# Altium integrated library Linear Technology Power Management PMIC Multifunction.IntLib: 360 symbols (part 36 of 42)
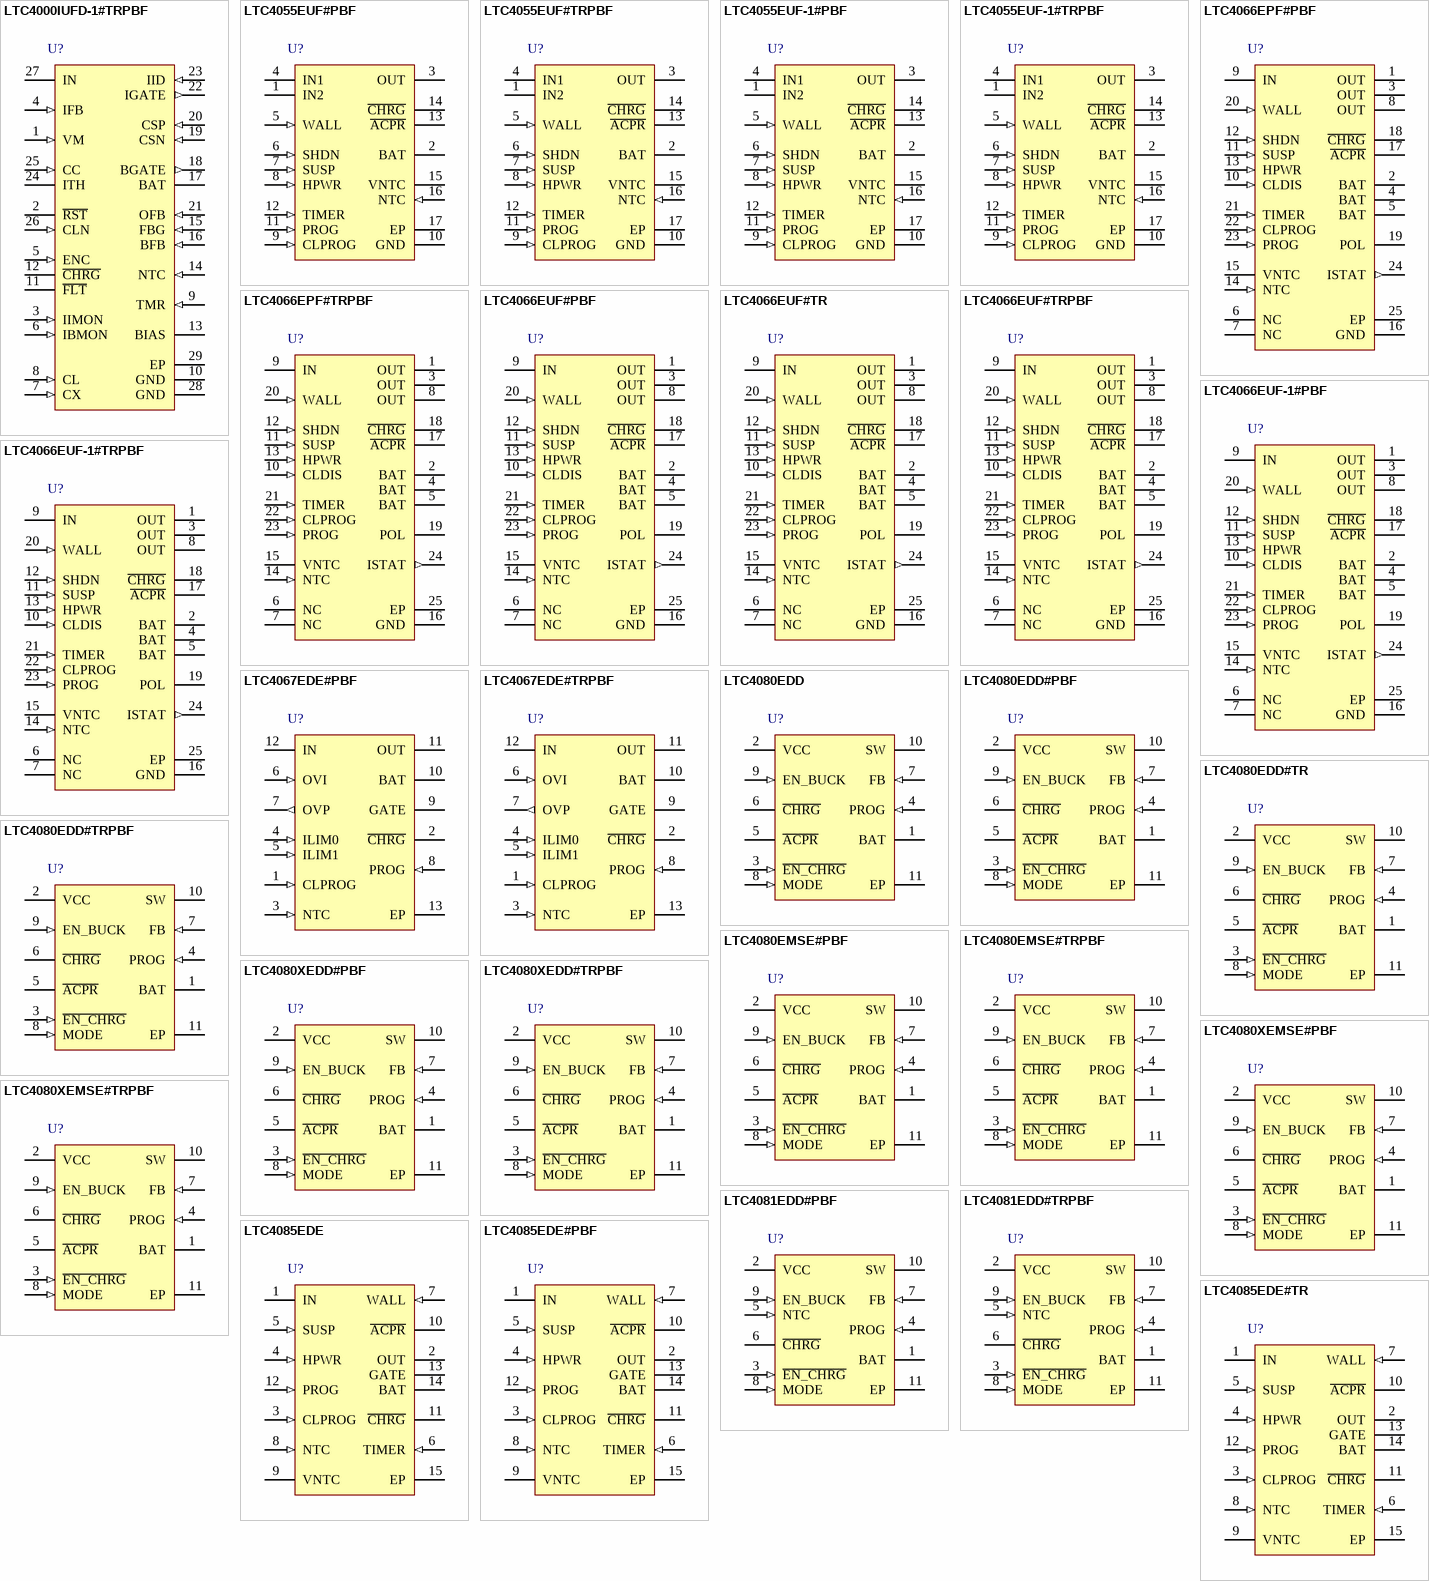
[diagram p53: symbols LTC4000IUFD-1#TRPBF to LTC4085EDE#TR]

## LTC4066EUF#TRPBF
designator U?
USB Power Manager with Low-Loss 50 mOhm Ideal Diode and Li-Ion Battery Charger, 4.35 to 5.5 V Vin, 24-pin QFN (UF-24) -40 to 85 degC, Pb-Free, Tape and Reel; Manufacturer: Linear Technology; PartNumber: LTC4066EUF#TRPBF; Number of Cells: 1; Vin Max(V): 5.5; Vin Min(V): 4.35; DatasheetVersion: Rev. C; PackageVersion: Rev. B, 02/2012; PackageReference: UF24; PackageDescription: 24-Pin Plastic QFN, Body 4 x 4 mm, Pitch 0.5 mm; Supplier 1: Digi-Key; Supplier Part Number 1: LTC4066EUF#TRPBF-ND; Supplier 2: Newark; Supplier Part Number 2: 56M8690; Number of Outputs: 1; Packing: Tape and Reel; RoHS: TRUE; Mounting Technology: Surface Mount; Code_JEDEC: MO-220; ComponentLink1Description: Manufacturer URL; ComponentLink1URL: http://www.linear.com/; ComponentLink2Description: Datasheet; ComponentLink2URL: http://cds.linear.com/docs/en/datasheet/4066fc.pdf; ComponentLink3Description: Package Specification; ComponentLink3URL: http://cds.linear.com/docs/en/packaging/%28UF24%29%20QFN%2005-08-1697%20Rev%20B.pdf
footprint LT-UF-24_N (QFN, 24-Leads, Body 4.1x4.1mm, Pitch 0.5mm, Thermal Pad 2.45x2.45mm, IPC Medium Density)
footprint LT-UF-24_L (QFN, 24-Leads, Body 4.1x4.1mm, Pitch 0.5mm, Thermal Pad 2.45x2.45mm, IPC High Density)
footprint LT-UF-24_M (QFN, 24-Leads, Body 4.1x4.1mm, Pitch 0.5mm, Thermal Pad 2.45x2.45mm, IPC Low Density)
pins: 1 OUT (power) "Voltage Output. This pin is used to provide controlled power to a USB device from either USB VBUS (IN) or the battery (BAT) when the USB is not present. This pin can also be used as an input for battery charging when the USB (See Datasheet)", 2 BAT (power) "Connect to a single cell Li-Ion battery. This pin is used as an output when charging the battery, and as an input when supplying power to OUT. When the OUT pin potential drops below the BAT pin potential, an ideal diode (See Datasheet)", 3 OUT (power) "Voltage Output. This pin is used to provide controlled power to a USB device from either USB VBUS (IN) or the battery (BAT) when the USB is not present. This pin can also be used as an input for battery charging when the USB (See Datasheet)", 4 BAT (power) "Connect to a single cell Li-Ion battery. This pin is used as an output when charging the battery, and as an input when supplying power to OUT. When the OUT pin potential drops below the BAT pin potential, an ideal diode (See Datasheet)", 5 BAT (power) "Connect to a single cell Li-Ion battery. This pin is used as an output when charging the battery, and as an input when supplying power to OUT. When the OUT pin potential drops below the BAT pin potential, an ideal diode (See Datasheet)", 6 NC, 7 NC, 8 OUT (power) "Voltage Output. This pin is used to provide controlled power to a USB device from either USB VBUS (IN) or the battery (BAT) when the USB is not present. This pin can also be used as an input for battery charging when the USB (See Datasheet)", 9 IN (power) "Input Supply. Connect to USB supply, VBUS. Input current to this pin is limited to either 20% or 100% of the current programmed by the CLPROG pin as determined by the state of the HPWR pin. The input current limit can also (See Datasheet)", 10 CLDIS (in) "Current Limit Disable. This logic input is used to disable the input current limit programmed by CLPROG. A voltage greater than 1.2V on the pin will set the current limit to IIN(MAX) (typically 2.6A). A weak pulldown current (See Datasheet)", 11 SUSP (in) "Suspend Mode Input. Pulling this pin above 1.2V will disable the power path from IN to OUT. The supply current from IN will be reduced to comply with the USB specifi cation for Suspend mode. Both the ability to charge the (See Datasheet)", 12 SHDN (in) "Shutdown Input. Pulling this pin greater than 1.2V will disable the entire part and place it in a low supply current mode of operation. All power paths will be disabled. A weak pull-down current is internally applied to this (See Datasheet)", 13 HPWR (in) "High Power Select. This logic input is used to control the input current limit. A voltage greater than 1.2V on the pin will set the input current limit to 100% of the current programmed by the CLPROG pin. A voltage less than (See Datasheet)", 14 NTC (in) "Input to the NTC Thermistor Monitoring Circuits. Under normal operation, tie a thermistor from the NTC pin to ground and a resistor of equal value from NTC to VNTC. When the voltage on this pin is above 0.74 • VVNTC (Cold(See Datasheet)", 15 VNTC "Output Bias Voltage for NTC. A resistor from this pin to the NTC pin will bias the NTC thermistor.", 16 GND (power) "Ground. The Exposed Pad is ground and must be soldered to the PC board for maximum heat transfer. The Exposed Pad must be electrically connected to the GND pin.", 17 ~{ACPR} (oc) "Wall Adapter Present Output. Active low open-drain output pin. A low on this pin indicates that the wall adapter input comparator has had its input pulled above the input threshold. This feature is disabled if the part is (See Datasheet)", 18 ~{CHRG} (hiz) "Open-Drain Charge Status Output. When the battery is being charged, the C\H\R\G\ pin is pulled low by an internal N-channel MOSFET. When the timer runs out or the charge current drops below a programmable current level or (See Datasheet)", 19 POL (hiz) "Battery Current Status Polarity Pin. This open-drain output pin indicates whether the current flowing out of the ISTAT pin represents one-thousandth of the current flowing into or out of the BAT pins. The POL pin will pull (See Datasheet)", 20 WALL (in) "Wall Adapter Present Input. Pulling this pin above 1.225V will disconnect the power path from IN to OUT. The A\C\P\R\ pin will also be pulled low to indicate that a wall adapter has been detected.", 21 TIMER (in) "Timer Capacitor. Placing a capacitor, CTIMER, to GND sets the timer period.", 22 CLPROG (in) "Current Limit Program and Input Current Monitor. Connecting a resistor, RCLPROG, to ground programs the input to output current limit.", 23 PROG (in) "Charge Current Program. Connecting a resistor, RPROG, to ground programs the battery charge current.", 24 ISTAT (out) "Battery Current Status Pin. One-thousandth of the current flowing into or out of the BAT pins flows out of this pin. The POL polarity pin indicates which direction current is flowing. If the current flowing into the BAT pins (See Datasheet)", 25 EP (power) "Ground. The Exposed Pad is ground and must be soldered to the PC board for maximum heat transfer. The Exposed Pad must be electrically connected to the GND pin."

## LTC4066EUF-1#PBF
designator U?
USB Power Manager with Low-Loss 50 mOhm Ideal Diode and Li-Ion Battery Charger, 4.35 to 5.5 V Vin, 24-pin QFN (UF-24) -40 to 85 degC, Pb-Free; Manufacturer: Linear Technology; PartNumber: LTC4066EUF-1#PBF; Number of Cells: 1; Vin Max(V): 5.5; Vin Min(V): 4.35; DatasheetVersion: Rev. C; PackageVersion: Rev. B, 02/2012; PackageReference: UF24; PackageDescription: 24-Pin Plastic QFN, Body 4 x 4 mm, Pitch 0.5 mm; Supplier 1: Digi-Key; Supplier Part Number 1: LTC4066EUF-1#PBF-ND; Number of Outputs: 1; RoHS: TRUE; Mounting Technology: Surface Mount; Code_JEDEC: MO-220; ComponentLink1Description: Manufacturer URL; ComponentLink1URL: http://www.linear.com/; ComponentLink2Description: Datasheet; ComponentLink2URL: http://cds.linear.com/docs/en/datasheet/4066fc.pdf; ComponentLink3Description: Package Specification; ComponentLink3URL: http://cds.linear.com/docs/en/packaging/%28UF24%29%20QFN%2005-08-1697%20Rev%20B.pdf
footprint LT-UF-24_N (QFN, 24-Leads, Body 4.1x4.1mm, Pitch 0.5mm, Thermal Pad 2.45x2.45mm, IPC Medium Density)
footprint LT-UF-24_L (QFN, 24-Leads, Body 4.1x4.1mm, Pitch 0.5mm, Thermal Pad 2.45x2.45mm, IPC High Density)
footprint LT-UF-24_M (QFN, 24-Leads, Body 4.1x4.1mm, Pitch 0.5mm, Thermal Pad 2.45x2.45mm, IPC Low Density)
pins: 1 OUT (power) "Voltage Output. This pin is used to provide controlled power to a USB device from either USB VBUS (IN) or the battery (BAT) when the USB is not present. This pin can also be used as an input for battery charging when the USB (See Datasheet)", 2 BAT (power) "Connect to a single cell Li-Ion battery. This pin is used as an output when charging the battery, and as an input when supplying power to OUT. When the OUT pin potential drops below the BAT pin potential, an ideal diode (See Datasheet)", 3 OUT (power) "Voltage Output. This pin is used to provide controlled power to a USB device from either USB VBUS (IN) or the battery (BAT) when the USB is not present. This pin can also be used as an input for battery charging when the USB (See Datasheet)", 4 BAT (power) "Connect to a single cell Li-Ion battery. This pin is used as an output when charging the battery, and as an input when supplying power to OUT. When the OUT pin potential drops below the BAT pin potential, an ideal diode (See Datasheet)", 5 BAT (power) "Connect to a single cell Li-Ion battery. This pin is used as an output when charging the battery, and as an input when supplying power to OUT. When the OUT pin potential drops below the BAT pin potential, an ideal diode (See Datasheet)", 6 NC, 7 NC, 8 OUT (power) "Voltage Output. This pin is used to provide controlled power to a USB device from either USB VBUS (IN) or the battery (BAT) when the USB is not present. This pin can also be used as an input for battery charging when the USB (See Datasheet)", 9 IN (power) "Input Supply. Connect to USB supply, VBUS. Input current to this pin is limited to either 20% or 100% of the current programmed by the CLPROG pin as determined by the state of the HPWR pin. The input current limit can also (See Datasheet)", 10 CLDIS (in) "Current Limit Disable. This logic input is used to disable the input current limit programmed by CLPROG. A voltage greater than 1.2V on the pin will set the current limit to IIN(MAX) (typically 2.6A). A weak pulldown current (See Datasheet)", 11 SUSP (in) "Suspend Mode Input. Pulling this pin above 1.2V will disable the power path from IN to OUT. The supply current from IN will be reduced to comply with the USB specifi cation for Suspend mode. Both the ability to charge the (See Datasheet)", 12 SHDN (in) "Shutdown Input. Pulling this pin greater than 1.2V will disable the entire part and place it in a low supply current mode of operation. All power paths will be disabled. A weak pull-down current is internally applied to this (See Datasheet)", 13 HPWR (in) "High Power Select. This logic input is used to control the input current limit. A voltage greater than 1.2V on the pin will set the input current limit to 100% of the current programmed by the CLPROG pin. A voltage less than (See Datasheet)", 14 NTC (in) "Input to the NTC Thermistor Monitoring Circuits. Under normal operation, tie a thermistor from the NTC pin to ground and a resistor of equal value from NTC to VNTC. When the voltage on this pin is above 0.74 • VVNTC (Cold(See Datasheet)", 15 VNTC "Output Bias Voltage for NTC. A resistor from this pin to the NTC pin will bias the NTC thermistor.", 16 GND (power) "Ground. The Exposed Pad is ground and must be soldered to the PC board for maximum heat transfer. The Exposed Pad must be electrically connected to the GND pin.", 17 ~{ACPR} (oc) "Wall Adapter Present Output. Active low open-drain output pin. A low on this pin indicates that the wall adapter input comparator has had its input pulled above the input threshold. This feature is disabled if the part is (See Datasheet)", 18 ~{CHRG} (hiz) "Open-Drain Charge Status Output. When the battery is being charged, the C\H\R\G\ pin is pulled low by an internal N-channel MOSFET. When the timer runs out or the charge current drops below a programmable current level or (See Datasheet)", 19 POL (hiz) "Battery Current Status Polarity Pin. This open-drain output pin indicates whether the current flowing out of the ISTAT pin represents one-thousandth of the current flowing into or out of the BAT pins. The POL pin will pull (See Datasheet)", 20 WALL (in) "Wall Adapter Present Input. Pulling this pin above 1.225V will disconnect the power path from IN to OUT. The A\C\P\R\ pin will also be pulled low to indicate that a wall adapter has been detected.", 21 TIMER (in) "Timer Capacitor. Placing a capacitor, CTIMER, to GND sets the timer period.", 22 CLPROG (in) "Current Limit Program and Input Current Monitor. Connecting a resistor, RCLPROG, to ground programs the input to output current limit.", 23 PROG (in) "Charge Current Program. Connecting a resistor, RPROG, to ground programs the battery charge current.", 24 ISTAT (out) "Battery Current Status Pin. One-thousandth of the current flowing into or out of the BAT pins flows out of this pin. The POL polarity pin indicates which direction current is flowing. If the current flowing into the BAT pins (See Datasheet)", 25 EP (power) "Ground. The Exposed Pad is ground and must be soldered to the PC board for maximum heat transfer. The Exposed Pad must be electrically connected to the GND pin."

## LTC4066EUF-1#TRPBF
designator U?
USB Power Manager with Low-Loss 50 mOhm Ideal Diode and Li-Ion Battery Charger, 4.35 to 5.5 V Vin, 24-pin QFN (UF-24) -40 to 85 degC, Pb-Free, Tape and Reel; Manufacturer: Linear Technology; PartNumber: LTC4066EUF-1#TRPBF; Number of Cells: 1; Vin Max(V): 5.5; Vin Min(V): 4.35; DatasheetVersion: Rev. C; PackageVersion: Rev. B, 02/2012; PackageReference: UF24; PackageDescription: 24-Pin Plastic QFN, Body 4 x 4 mm, Pitch 0.5 mm; Supplier 1: Digi-Key; Supplier Part Number 1: LTC4066EUF-1#TRPBF-ND; Number of Outputs: 1; Packing: Tape and Reel; RoHS: TRUE; Mounting Technology: Surface Mount; Code_JEDEC: MO-220; ComponentLink1Description: Manufacturer URL; ComponentLink1URL: http://www.linear.com/; ComponentLink2Description: Datasheet; ComponentLink2URL: http://cds.linear.com/docs/en/datasheet/4066fc.pdf; ComponentLink3Description: Package Specification; ComponentLink3URL: http://cds.linear.com/docs/en/packaging/%28UF24%29%20QFN%2005-08-1697%20Rev%20B.pdf
footprint LT-UF-24_N (QFN, 24-Leads, Body 4.1x4.1mm, Pitch 0.5mm, Thermal Pad 2.45x2.45mm, IPC Medium Density)
footprint LT-UF-24_L (QFN, 24-Leads, Body 4.1x4.1mm, Pitch 0.5mm, Thermal Pad 2.45x2.45mm, IPC High Density)
footprint LT-UF-24_M (QFN, 24-Leads, Body 4.1x4.1mm, Pitch 0.5mm, Thermal Pad 2.45x2.45mm, IPC Low Density)
pins: 1 OUT (power) "Voltage Output. This pin is used to provide controlled power to a USB device from either USB VBUS (IN) or the battery (BAT) when the USB is not present. This pin can also be used as an input for battery charging when the USB (See Datasheet)", 2 BAT (power) "Connect to a single cell Li-Ion battery. This pin is used as an output when charging the battery, and as an input when supplying power to OUT. When the OUT pin potential drops below the BAT pin potential, an ideal diode (See Datasheet)", 3 OUT (power) "Voltage Output. This pin is used to provide controlled power to a USB device from either USB VBUS (IN) or the battery (BAT) when the USB is not present. This pin can also be used as an input for battery charging when the USB (See Datasheet)", 4 BAT (power) "Connect to a single cell Li-Ion battery. This pin is used as an output when charging the battery, and as an input when supplying power to OUT. When the OUT pin potential drops below the BAT pin potential, an ideal diode (See Datasheet)", 5 BAT (power) "Connect to a single cell Li-Ion battery. This pin is used as an output when charging the battery, and as an input when supplying power to OUT. When the OUT pin potential drops below the BAT pin potential, an ideal diode (See Datasheet)", 6 NC, 7 NC, 8 OUT (power) "Voltage Output. This pin is used to provide controlled power to a USB device from either USB VBUS (IN) or the battery (BAT) when the USB is not present. This pin can also be used as an input for battery charging when the USB (See Datasheet)", 9 IN (power) "Input Supply. Connect to USB supply, VBUS. Input current to this pin is limited to either 20% or 100% of the current programmed by the CLPROG pin as determined by the state of the HPWR pin. The input current limit can also (See Datasheet)", 10 CLDIS (in) "Current Limit Disable. This logic input is used to disable the input current limit programmed by CLPROG. A voltage greater than 1.2V on the pin will set the current limit to IIN(MAX) (typically 2.6A). A weak pulldown current (See Datasheet)", 11 SUSP (in) "Suspend Mode Input. Pulling this pin above 1.2V will disable the power path from IN to OUT. The supply current from IN will be reduced to comply with the USB specifi cation for Suspend mode. Both the ability to charge the (See Datasheet)", 12 SHDN (in) "Shutdown Input. Pulling this pin greater than 1.2V will disable the entire part and place it in a low supply current mode of operation. All power paths will be disabled. A weak pull-down current is internally applied to this (See Datasheet)", 13 HPWR (in) "High Power Select. This logic input is used to control the input current limit. A voltage greater than 1.2V on the pin will set the input current limit to 100% of the current programmed by the CLPROG pin. A voltage less than (See Datasheet)", 14 NTC (in) "Input to the NTC Thermistor Monitoring Circuits. Under normal operation, tie a thermistor from the NTC pin to ground and a resistor of equal value from NTC to VNTC. When the voltage on this pin is above 0.74 • VVNTC (Cold(See Datasheet)", 15 VNTC "Output Bias Voltage for NTC. A resistor from this pin to the NTC pin will bias the NTC thermistor.", 16 GND (power) "Ground. The Exposed Pad is ground and must be soldered to the PC board for maximum heat transfer. The Exposed Pad must be electrically connected to the GND pin.", 17 ~{ACPR} (oc) "Wall Adapter Present Output. Active low open-drain output pin. A low on this pin indicates that the wall adapter input comparator has had its input pulled above the input threshold. This feature is disabled if the part is (See Datasheet)", 18 ~{CHRG} (hiz) "Open-Drain Charge Status Output. When the battery is being charged, the C\H\R\G\ pin is pulled low by an internal N-channel MOSFET. When the timer runs out or the charge current drops below a programmable current level or (See Datasheet)", 19 POL (hiz) "Battery Current Status Polarity Pin. This open-drain output pin indicates whether the current flowing out of the ISTAT pin represents one-thousandth of the current flowing into or out of the BAT pins. The POL pin will pull (See Datasheet)", 20 WALL (in) "Wall Adapter Present Input. Pulling this pin above 1.225V will disconnect the power path from IN to OUT. The A\C\P\R\ pin will also be pulled low to indicate that a wall adapter has been detected.", 21 TIMER (in) "Timer Capacitor. Placing a capacitor, CTIMER, to GND sets the timer period.", 22 CLPROG (in) "Current Limit Program and Input Current Monitor. Connecting a resistor, RCLPROG, to ground programs the input to output current limit.", 23 PROG (in) "Charge Current Program. Connecting a resistor, RPROG, to ground programs the battery charge current.", 24 ISTAT (out) "Battery Current Status Pin. One-thousandth of the current flowing into or out of the BAT pins flows out of this pin. The POL polarity pin indicates which direction current is flowing. If the current flowing into the BAT pins (See Datasheet)", 25 EP (power) "Ground. The Exposed Pad is ground and must be soldered to the PC board for maximum heat transfer. The Exposed Pad must be electrically connected to the GND pin."

## LTC4067EDE#PBF
designator U?
USB Power Manager with OVP and Li-Ion / Polymer Charger, 4.35 to 5.5 V Vin, 12-pin SON (DE-UE-12), -40 to 85 degC, Pb-Free; Manufacturer: Linear Technology; PartNumber: LTC4067EDE#PBF; Number of Cells: 1; PackageVersion: Rev. D, 06/2010; PackageReference: DE-UE-12; PackageDescription: 12-Pin Plastic DFN, Body 4 x 3 mm, Pitch 0.5 mm; Supplier 1: Digi-Key; Supplier Part Number 1: LTC4067EDE#PBF-ND; Supplier 2: Farnell; Supplier Part Number 2: 2295376; Supplier 3: Newark; Supplier Part Number 3: 56M8691; Number of Outputs: 1; RoHS: TRUE; Mounting Technology: Surface Mount; Code_JEDEC: MO-229; ComponentLink1Description: Manufacturer URL; ComponentLink1URL: http://www.linear.com/; ComponentLink2Description: Datasheet; ComponentLink2URL: http://cds.linear.com/docs/en/datasheet/4067f.pdf; ComponentLink3Description: Package Specification; ComponentLink3URL: http://cds.linear.com/docs/en/packaging/DFN_12_05-08-1695.pdf
footprint LT-DE-UE-12_V (SON, 12-Leads, Body 4x3mm, Pitch 0.5mm, Thermal Pad 3.3x1.7mm)
pins: 1 CLPROG (in) "Current Limit Program Pin. Connecting a 1% resistor, RCLPROG, to ground programs input current limit depending on the selected operating mode. Operating mode and input current limit are programmed depending on the ILIM0 and (See Datasheet)", 2 ~{CHRG} (hiz) "Open Drain Charge/Fault Status Output. When the battery is being charged, the C\H\R\G\ pin is pulled low by an internal N-channel MOSFET. When the timer runs out or the charge current drops below a programmable level or the (See Datasheet)", 3 NTC (in) "Thermistor sense input to the thermistor monitoring circuits. Under normal operation, tie a thermistor from the NTC pin to ground and a resistor of equal value from the NTC pin to IN. Connect the NTC pin to ground to disable (See Datasheet)", 4 ILIM0 (in) "Current Limit Control Input. Float or connect to ground when not in use (see Table 1).", 5 ILIM1 (in) "Current Limit Control Input. Float or connect to ground when not in use (see Table 1).", 6 OVI (in) "Overvoltage Protection Sense Input. Connect to ground when not in use. Bypass to OVP with a 10nF capacitor.", 7 OVP (out) "Overvoltage Protection Output. Drive output for an external high-voltage protection PFET. Float when not in use.", 8 PROG (in) "Charge Current Program Pin. Connecting a 1% resistor, RPROG, to ground programs the charge current during the constant-current portion of the charge cycle according to the following formula: ICC-CHG (A) = 1000V/RPROG. If the (See Datasheet)", 9 GATE (hiz) "External Ideal Diode Gate Connection. This pin controls the gate of an optional external P-channel MOSFET transistor used to supplement the internal ideal diode. The source of the P-channel MOSFET should be connected to OUT (See Datasheet)", 10 BAT (power) "Single-Cell Li-Ion Battery. Depending on available power and load, a Li-Ion battery on BAT will either deliver system power to OUT through the ideal diode or be charged from the battery charger.", 11 OUT (power) "Output Voltage of the PowerPath(TM) Controller and Input Voltage of the Battery Charger. The majority of the portable product should be powered from OUT. The LTC4067 will partition the available power between the external (See Datasheet)", 12 IN (power) "USB Input Voltage. IN will usually be connected to the USB port of a computer or a DC output wall adapter. IN should be bypassed with a low impedance multilayer ceramic capacitor of at least 1uF.", 13 EP (power) "Ground. The exposed pad is ground and must be soldered to the PC board for proper functionality and for maximum heat transfer."

## LTC4067EDE#TRPBF
designator U?
USB Power Manager with OVP and Li-Ion / Polymer Charger, 4.35 to 5.5 V Vin, 12-pin SON (DE-UE-12), -40 to 85 degC, Pb-Free, Tape and Reel; Manufacturer: Linear Technology; PartNumber: LTC4067EDE#TRPBF; Number of Cells: 1; PackageVersion: Rev. D, 06/2010; PackageReference: DE-UE-12; PackageDescription: 12-Pin Plastic DFN, Body 4 x 3 mm, Pitch 0.5 mm; Supplier 1: Digi-Key; Supplier Part Number 1: LTC4067EDE#TRPBF-ND; Number of Outputs: 1; Packing: Tape and Reel; RoHS: TRUE; Mounting Technology: Surface Mount; Code_JEDEC: MO-229; ComponentLink1Description: Manufacturer URL; ComponentLink1URL: http://www.linear.com/; ComponentLink2Description: Datasheet; ComponentLink2URL: http://cds.linear.com/docs/en/datasheet/4067f.pdf; ComponentLink3Description: Package Specification; ComponentLink3URL: http://cds.linear.com/docs/en/packaging/DFN_12_05-08-1695.pdf
footprint LT-DE-UE-12_V (SON, 12-Leads, Body 4x3mm, Pitch 0.5mm, Thermal Pad 3.3x1.7mm)
pins: 1 CLPROG (in) "Current Limit Program Pin. Connecting a 1% resistor, RCLPROG, to ground programs input current limit depending on the selected operating mode. Operating mode and input current limit are programmed depending on the ILIM0 and (See Datasheet)", 2 ~{CHRG} (hiz) "Open Drain Charge/Fault Status Output. When the battery is being charged, the C\H\R\G\ pin is pulled low by an internal N-channel MOSFET. When the timer runs out or the charge current drops below a programmable level or the (See Datasheet)", 3 NTC (in) "Thermistor sense input to the thermistor monitoring circuits. Under normal operation, tie a thermistor from the NTC pin to ground and a resistor of equal value from the NTC pin to IN. Connect the NTC pin to ground to disable (See Datasheet)", 4 ILIM0 (in) "Current Limit Control Input. Float or connect to ground when not in use (see Table 1).", 5 ILIM1 (in) "Current Limit Control Input. Float or connect to ground when not in use (see Table 1).", 6 OVI (in) "Overvoltage Protection Sense Input. Connect to ground when not in use. Bypass to OVP with a 10nF capacitor.", 7 OVP (out) "Overvoltage Protection Output. Drive output for an external high-voltage protection PFET. Float when not in use.", 8 PROG (in) "Charge Current Program Pin. Connecting a 1% resistor, RPROG, to ground programs the charge current during the constant-current portion of the charge cycle according to the following formula: ICC-CHG (A) = 1000V/RPROG. If the (See Datasheet)", 9 GATE (hiz) "External Ideal Diode Gate Connection. This pin controls the gate of an optional external P-channel MOSFET transistor used to supplement the internal ideal diode. The source of the P-channel MOSFET should be connected to OUT (See Datasheet)", 10 BAT (power) "Single-Cell Li-Ion Battery. Depending on available power and load, a Li-Ion battery on BAT will either deliver system power to OUT through the ideal diode or be charged from the battery charger.", 11 OUT (power) "Output Voltage of the PowerPath(TM) Controller and Input Voltage of the Battery Charger. The majority of the portable product should be powered from OUT. The LTC4067 will partition the available power between the external (See Datasheet)", 12 IN (power) "USB Input Voltage. IN will usually be connected to the USB port of a computer or a DC output wall adapter. IN should be bypassed with a low impedance multilayer ceramic capacitor of at least 1uF.", 13 EP (power) "Ground. The exposed pad is ground and must be soldered to the PC board for proper functionality and for maximum heat transfer."

## LTC4080EDD
designator U?
500 mA Standalone Li-Ion Charger with Integrated 300 mA Synchronous Buck, 3.75 to 5.5 V Vin, 10-pin SON (DD-10), -40 to 85 degC; Manufacturer: Linear Technology; PartNumber: LTC4080EDD; Number of Cells: 1; Vin Max(V): 5.5; Vin Min(V): 3.75; DatasheetVersion: Rev. B; PackageVersion: Rev. C, 06/2010; PackageReference: DD-10; PackageDescription: 10-Pin Plastic DFN, Body 3 x 3 mm, Pitch 0.5 mm; Number of Outputs: 1; RoHS: FALSE; Mounting Technology: Surface Mount; Code_JEDEC: MO-229; ComponentLink1Description: Manufacturer URL; ComponentLink1URL: http://www.linear.com/; ComponentLink2Description: Datasheet; ComponentLink2URL: http://cds.linear.com/docs/en/datasheet/4080fb.pdf; ComponentLink3Description: Package Specification; ComponentLink3URL: http://cds.linear.com/docs/en/packaging/DFN_10_05-08-1699.pdf
footprint LT-DD-10_V (SON, 10-Leads, Body 3x3mm, Pitch 0.5mm, Thermal Pad 2.38x1.65mm)
pins: 1 BAT (power) "Charge Current Output and Buck Regulator Input. Provides charge current to the battery and regulates the final float voltage to 4.2V. An internal precision resistor divider from this pin sets the float voltage and is (See Datasheet)", 2 VCC (power) "Positive Input Supply Voltage. This pin provides power to the battery charger. VCC can range from 3.75V to 5.5V. This pin should be bypassed with at least a 1uF capacitor. When VCC is less than 32mV above the BAT pin (See Datasheet)", 3 ~{EN_CHRG} (in), 4 PROG (in) "Charge Current Program and Charge Current Monitor Pin. Connecting a 1% resistor, RPROG, to ground programs the charge current. When charging in constant-current mode, this pin servos to 1V.", 5 ~{ACPR} (hiz), 6 ~{CHRG} (hiz) "Open-Drain Charge Status Output. The charge status indicator pin has three states: pulldown, high impedance state, and pulse at 2Hz. This output can be used as a logic interface or as an LED driver. When the battery is being (See Datasheet)", 7 FB (in) "Feedback Pin for the Buck Regulator. A resistor divider from the regulator’s output to the FB pin programs the output voltage. Servo value for this pin is 0.8V.", 8 MODE (in), 9 EN_BUCK (in) "Enable Input Pin for the Switching Regulator. Pull this pin high to enable the regulator, pull low to shut down. Do not float this pin.", 10 SW (power) "Switch Pin for the Buck Regulator. Minimize the length of the metal trace connected to this pin. Place the inductor as close to this pin as possible.", 11 EP (power) "Ground. This pin is the back of the Exposed Pad package and must be soldered to the PCB for electrical connection and rated thermal performance."

## LTC4080EDD#PBF
designator U?
500 mA Standalone Li-Ion Charger with Integrated 300 mA Synchronous Buck, 3.75 to 5.5 V Vin, 10-pin SON (DD-10), -40 to 85 degC, Pb-Free; Manufacturer: Linear Technology; PartNumber: LTC4080EDD#PBF; Number of Cells: 1; Vin Max(V): 5.5; Vin Min(V): 3.75; DatasheetVersion: Rev. B; PackageVersion: Rev. C, 06/2010; PackageReference: DD-10; PackageDescription: 10-Pin Plastic DFN, Body 3 x 3 mm, Pitch 0.5 mm; Supplier 1: Digi-Key; Supplier Part Number 1: LTC4080EDD#PBF-ND; Number of Outputs: 1; RoHS: TRUE; Mounting Technology: Surface Mount; Code_JEDEC: MO-229; ComponentLink1Description: Manufacturer URL; ComponentLink1URL: http://www.linear.com/; ComponentLink2Description: Datasheet; ComponentLink2URL: http://cds.linear.com/docs/en/datasheet/4080fb.pdf; ComponentLink3Description: Package Specification; ComponentLink3URL: http://cds.linear.com/docs/en/packaging/DFN_10_05-08-1699.pdf
footprint LT-DD-10_V (SON, 10-Leads, Body 3x3mm, Pitch 0.5mm, Thermal Pad 2.38x1.65mm)
pins: 1 BAT (power) "Charge Current Output and Buck Regulator Input. Provides charge current to the battery and regulates the final float voltage to 4.2V. An internal precision resistor divider from this pin sets the float voltage and is (See Datasheet)", 2 VCC (power) "Positive Input Supply Voltage. This pin provides power to the battery charger. VCC can range from 3.75V to 5.5V. This pin should be bypassed with at least a 1uF capacitor. When VCC is less than 32mV above the BAT pin (See Datasheet)", 3 ~{EN_CHRG} (in), 4 PROG (in) "Charge Current Program and Charge Current Monitor Pin. Connecting a 1% resistor, RPROG, to ground programs the charge current. When charging in constant-current mode, this pin servos to 1V.", 5 ~{ACPR} (hiz), 6 ~{CHRG} (hiz) "Open-Drain Charge Status Output. The charge status indicator pin has three states: pulldown, high impedance state, and pulse at 2Hz. This output can be used as a logic interface or as an LED driver. When the battery is being (See Datasheet)", 7 FB (in) "Feedback Pin for the Buck Regulator. A resistor divider from the regulator’s output to the FB pin programs the output voltage. Servo value for this pin is 0.8V.", 8 MODE (in), 9 EN_BUCK (in) "Enable Input Pin for the Switching Regulator. Pull this pin high to enable the regulator, pull low to shut down. Do not float this pin.", 10 SW (power) "Switch Pin for the Buck Regulator. Minimize the length of the metal trace connected to this pin. Place the inductor as close to this pin as possible.", 11 EP (power) "Ground. This pin is the back of the Exposed Pad package and must be soldered to the PCB for electrical connection and rated thermal performance."

## LTC4080EDD#TR
designator U?
500 mA Standalone Li-Ion Charger with Integrated 300 mA Synchronous Buck, 3.75 to 5.5 V Vin, 10-pin SON (DD-10), -40 to 85 degC, Tape and Reel; Manufacturer: Linear Technology; PartNumber: LTC4080EDD#TR; Number of Cells: 1; Vin Max(V): 5.5; Vin Min(V): 3.75; DatasheetVersion: Rev. B; PackageVersion: Rev. C, 06/2010; PackageReference: DD-10; PackageDescription: 10-Pin Plastic DFN, Body 3 x 3 mm, Pitch 0.5 mm; Number of Outputs: 1; Packing: Tape and Reel; RoHS: FALSE; Mounting Technology: Surface Mount; Code_JEDEC: MO-229; ComponentLink1Description: Manufacturer URL; ComponentLink1URL: http://www.linear.com/; ComponentLink2Description: Datasheet; ComponentLink2URL: http://cds.linear.com/docs/en/datasheet/4080fb.pdf; ComponentLink3Description: Package Specification; ComponentLink3URL: http://cds.linear.com/docs/en/packaging/DFN_10_05-08-1699.pdf
footprint LT-DD-10_V (SON, 10-Leads, Body 3x3mm, Pitch 0.5mm, Thermal Pad 2.38x1.65mm)
pins: 1 BAT (power) "Charge Current Output and Buck Regulator Input. Provides charge current to the battery and regulates the final float voltage to 4.2V. An internal precision resistor divider from this pin sets the float voltage and is (See Datasheet)", 2 VCC (power) "Positive Input Supply Voltage. This pin provides power to the battery charger. VCC can range from 3.75V to 5.5V. This pin should be bypassed with at least a 1uF capacitor. When VCC is less than 32mV above the BAT pin (See Datasheet)", 3 ~{EN_CHRG} (in), 4 PROG (in) "Charge Current Program and Charge Current Monitor Pin. Connecting a 1% resistor, RPROG, to ground programs the charge current. When charging in constant-current mode, this pin servos to 1V.", 5 ~{ACPR} (hiz), 6 ~{CHRG} (hiz) "Open-Drain Charge Status Output. The charge status indicator pin has three states: pulldown, high impedance state, and pulse at 2Hz. This output can be used as a logic interface or as an LED driver. When the battery is being (See Datasheet)", 7 FB (in) "Feedback Pin for the Buck Regulator. A resistor divider from the regulator’s output to the FB pin programs the output voltage. Servo value for this pin is 0.8V.", 8 MODE (in), 9 EN_BUCK (in) "Enable Input Pin for the Switching Regulator. Pull this pin high to enable the regulator, pull low to shut down. Do not float this pin.", 10 SW (power) "Switch Pin for the Buck Regulator. Minimize the length of the metal trace connected to this pin. Place the inductor as close to this pin as possible.", 11 EP (power) "Ground. This pin is the back of the Exposed Pad package and must be soldered to the PCB for electrical connection and rated thermal performance."

## LTC4080EDD#TRPBF
designator U?
500 mA Standalone Li-Ion Charger with Integrated 300 mA Synchronous Buck, 3.75 to 5.5 V Vin, 10-pin SON (DD-10), -40 to 85 degC, Pb-Free, Tape and Reel; Manufacturer: Linear Technology; PartNumber: LTC4080EDD#TRPBF; Number of Cells: 1; Vin Max(V): 5.5; Vin Min(V): 3.75; DatasheetVersion: Rev. B; PackageVersion: Rev. C, 06/2010; PackageReference: DD-10; PackageDescription: 10-Pin Plastic DFN, Body 3 x 3 mm, Pitch 0.5 mm; Supplier 1: Digi-Key; Supplier Part Number 1: LTC4080EDD#TRPBF-ND; Number of Outputs: 1; Packing: Tape and Reel; RoHS: TRUE; Mounting Technology: Surface Mount; Code_JEDEC: MO-229; ComponentLink1Description: Manufacturer URL; ComponentLink1URL: http://www.linear.com/; ComponentLink2Description: Datasheet; ComponentLink2URL: http://cds.linear.com/docs/en/datasheet/4080fb.pdf; ComponentLink3Description: Package Specification; ComponentLink3URL: http://cds.linear.com/docs/en/packaging/DFN_10_05-08-1699.pdf
footprint LT-DD-10_V (SON, 10-Leads, Body 3x3mm, Pitch 0.5mm, Thermal Pad 2.38x1.65mm)
pins: 1 BAT (power) "Charge Current Output and Buck Regulator Input. Provides charge current to the battery and regulates the final float voltage to 4.2V. An internal precision resistor divider from this pin sets the float voltage and is (See Datasheet)", 2 VCC (power) "Positive Input Supply Voltage. This pin provides power to the battery charger. VCC can range from 3.75V to 5.5V. This pin should be bypassed with at least a 1uF capacitor. When VCC is less than 32mV above the BAT pin (See Datasheet)", 3 ~{EN_CHRG} (in), 4 PROG (in) "Charge Current Program and Charge Current Monitor Pin. Connecting a 1% resistor, RPROG, to ground programs the charge current. When charging in constant-current mode, this pin servos to 1V.", 5 ~{ACPR} (hiz), 6 ~{CHRG} (hiz) "Open-Drain Charge Status Output. The charge status indicator pin has three states: pulldown, high impedance state, and pulse at 2Hz. This output can be used as a logic interface or as an LED driver. When the battery is being (See Datasheet)", 7 FB (in) "Feedback Pin for the Buck Regulator. A resistor divider from the regulator’s output to the FB pin programs the output voltage. Servo value for this pin is 0.8V.", 8 MODE (in), 9 EN_BUCK (in) "Enable Input Pin for the Switching Regulator. Pull this pin high to enable the regulator, pull low to shut down. Do not float this pin.", 10 SW (power) "Switch Pin for the Buck Regulator. Minimize the length of the metal trace connected to this pin. Place the inductor as close to this pin as possible.", 11 EP (power) "Ground. This pin is the back of the Exposed Pad package and must be soldered to the PCB for electrical connection and rated thermal performance."

## LTC4080EMSE#PBF
designator U?
500 mA Standalone Li-Ion Charger with Integrated 300 mA Synchronous Buck, 3.75 to 5.5 V Vin, 10-pin SOP (MSE-10-EDP), -40 to 85 degC, Pb-Free; Manufacturer: Linear Technology; PartNumber: LTC4080EMSE#PBF; Number of Cells: 1; Vin Max(V): 5.5; Vin Min(V): 3.75; DatasheetVersion: Rev. B; PackageVersion: Rev. C, 08/2009; PackageReference: MSE-10; PackageDescription: 10-Pin Plastic MSOP, Exposed Die Pad, Body 3 x 3 mm, Pitch 0.5 mm; Supplier 1: Digi-Key; Supplier Part Number 1: LTC4080EMSE#PBF-ND; Number of Outputs: 1; RoHS: TRUE; Mounting Technology: Surface Mount; ComponentLink1Description: Manufacturer URL; ComponentLink1URL: http://www.linear.com/; ComponentLink2Description: Datasheet; ComponentLink2URL: http://cds.linear.com/docs/en/datasheet/4080fb.pdf; ComponentLink3Description: Package Specification; ComponentLink3URL: http://cds.linear.com/docs/en/datasheet/3481fc.pdf
footprint LT-MSE-10-EDP-2060x1830TP_N (SOP, 10-Leads, Body 3.1x3.1mm, Pitch 0.5mm, Thermal Pad 2.17x1.94mm, IPC Medium Density)
footprint LT-MSE-10-EDP-2060x1830TP_L (SOP, 10-Leads, Body 3.1x3.1mm, Pitch 0.5mm, Thermal Pad 2.17x1.94mm, IPC High Density)
footprint LT-MSE-10-EDP-2060x1830TP_M (SOP, 10-Leads, Body 3.1x3.1mm, Pitch 0.5mm, Thermal Pad 2.17x1.94mm, IPC Low Density)
pins: 1 BAT (power) "Charge Current Output and Buck Regulator Input. Provides charge current to the battery and regulates the final float voltage to 4.2V. An internal precision resistor divider from this pin sets the float voltage and is (See Datasheet)", 2 VCC (power) "Positive Input Supply Voltage. This pin provides power to the battery charger. VCC can range from 3.75V to 5.5V. This pin should be bypassed with at least a 1uF capacitor. When VCC is less than 32mV above the BAT pin (See Datasheet)", 3 ~{EN_CHRG} (in), 4 PROG (in) "Charge Current Program and Charge Current Monitor Pin. Connecting a 1% resistor, RPROG, to ground programs the charge current. When charging in constant-current mode, this pin servos to 1V.", 5 ~{ACPR} (hiz), 6 ~{CHRG} (hiz) "Open-Drain Charge Status Output. The charge status indicator pin has three states: pulldown, high impedance state, and pulse at 2Hz. This output can be used as a logic interface or as an LED driver. When the battery is being (See Datasheet)", 7 FB (in) "Feedback Pin for the Buck Regulator. A resistor divider from the regulator’s output to the FB pin programs the output voltage. Servo value for this pin is 0.8V.", 8 MODE (in), 9 EN_BUCK (in) "Enable Input Pin for the Switching Regulator. Pull this pin high to enable the regulator, pull low to shut down. Do not float this pin.", 10 SW (power) "Switch Pin for the Buck Regulator. Minimize the length of the metal trace connected to this pin. Place the inductor as close to this pin as possible.", 11 EP (power) "Ground. This pin is the back of the Exposed Pad package and must be soldered to the PCB for electrical connection and rated thermal performance."

## LTC4080EMSE#TRPBF
designator U?
500 mA Standalone Li-Ion Charger with Integrated 300 mA Synchronous Buck, 3.75 to 5.5 V Vin, 10-pin SOP (MSE-10-EDP), -40 to 85 degC, Pb-Free, Tape and Reel; Manufacturer: Linear Technology; PartNumber: LTC4080EMSE#TRPBF; Number of Cells: 1; Vin Max(V): 5.5; Vin Min(V): 3.75; DatasheetVersion: Rev. B; PackageVersion: Rev. C, 08/2009; PackageReference: MSE-10; PackageDescription: 10-Pin Plastic MSOP, Exposed Die Pad, Body 3 x 3 mm, Pitch 0.5 mm; Supplier 1: Digi-Key; Supplier Part Number 1: LTC4080EMSE#TRPBF-ND; Number of Outputs: 1; Packing: Tape and Reel; RoHS: TRUE; Mounting Technology: Surface Mount; ComponentLink1Description: Manufacturer URL; ComponentLink1URL: http://www.linear.com/; ComponentLink2Description: Datasheet; ComponentLink2URL: http://cds.linear.com/docs/en/datasheet/4080fb.pdf; ComponentLink3Description: Package Specification; ComponentLink3URL: http://cds.linear.com/docs/en/datasheet/3481fc.pdf
footprint LT-MSE-10-EDP-2060x1830TP_N (SOP, 10-Leads, Body 3.1x3.1mm, Pitch 0.5mm, Thermal Pad 2.17x1.94mm, IPC Medium Density)
footprint LT-MSE-10-EDP-2060x1830TP_L (SOP, 10-Leads, Body 3.1x3.1mm, Pitch 0.5mm, Thermal Pad 2.17x1.94mm, IPC High Density)
footprint LT-MSE-10-EDP-2060x1830TP_M (SOP, 10-Leads, Body 3.1x3.1mm, Pitch 0.5mm, Thermal Pad 2.17x1.94mm, IPC Low Density)
pins: 1 BAT (power) "Charge Current Output and Buck Regulator Input. Provides charge current to the battery and regulates the final float voltage to 4.2V. An internal precision resistor divider from this pin sets the float voltage and is (See Datasheet)", 2 VCC (power) "Positive Input Supply Voltage. This pin provides power to the battery charger. VCC can range from 3.75V to 5.5V. This pin should be bypassed with at least a 1uF capacitor. When VCC is less than 32mV above the BAT pin (See Datasheet)", 3 ~{EN_CHRG} (in), 4 PROG (in) "Charge Current Program and Charge Current Monitor Pin. Connecting a 1% resistor, RPROG, to ground programs the charge current. When charging in constant-current mode, this pin servos to 1V.", 5 ~{ACPR} (hiz), 6 ~{CHRG} (hiz) "Open-Drain Charge Status Output. The charge status indicator pin has three states: pulldown, high impedance state, and pulse at 2Hz. This output can be used as a logic interface or as an LED driver. When the battery is being (See Datasheet)", 7 FB (in) "Feedback Pin for the Buck Regulator. A resistor divider from the regulator’s output to the FB pin programs the output voltage. Servo value for this pin is 0.8V.", 8 MODE (in), 9 EN_BUCK (in) "Enable Input Pin for the Switching Regulator. Pull this pin high to enable the regulator, pull low to shut down. Do not float this pin.", 10 SW (power) "Switch Pin for the Buck Regulator. Minimize the length of the metal trace connected to this pin. Place the inductor as close to this pin as possible.", 11 EP (power) "Ground. This pin is the back of the Exposed Pad package and must be soldered to the PCB for electrical connection and rated thermal performance."

## LTC4080XEDD#PBF
designator U?
500 mA Standalone Li-Ion Charger with Integrated 300 mA Synchronous Buck, 3.75 to 5.5 V Vin, 10-pin SON (DD-10), 0 to 70 degC, Pb-Free; Manufacturer: Linear Technology; PartNumber: LTC4080XEDD#PBF; Number of Cells: 1; Vin Max(V): 5.5; Vin Min(V): 3.75; PackageVersion: Rev. C, 06/2010; PackageReference: DD-10; PackageDescription: 10-Pin Plastic DFN, Body 3 x 3 mm, Pitch 0.5 mm; Supplier 1: Digi-Key; Supplier Part Number 1: LTC4080XEDD#PBF-ND; Number of Outputs: 1; RoHS: TRUE; Mounting Technology: Surface Mount; Code_JEDEC: MO-229; ComponentLink1Description: Manufacturer URL; ComponentLink1URL: http://www.linear.com/; ComponentLink2Description: Datasheet; ComponentLink2URL: http://cds.linear.com/docs/en/datasheet/4080Xf.pdf; ComponentLink3Description: Package Specification; ComponentLink3URL: http://cds.linear.com/docs/en/packaging/DFN_10_05-08-1699.pdf
footprint LT-DD-10_V (SON, 10-Leads, Body 3x3mm, Pitch 0.5mm, Thermal Pad 2.38x1.65mm)
pins: 1 BAT (power) "Charge Current Output and Buck Regulator Input. Provides charge current to the battery and regulates the final float voltage to 4.2V. An internal precision resistor divider from this pin sets the float voltage and is (See Datasheet)", 2 VCC (power) "Positive Input Supply Voltage. This pin provides power to the battery charger. VCC can range from 3.75V to 5.5V. This pin should be bypassed with at least a 1uF capacitor. When VCC is less than 32mV above the BAT pin (See Datasheet)", 3 ~{EN_CHRG} (in), 4 PROG (in) "Charge Current Program and Charge Current Monitor Pin. Connecting a 1% resistor, RPROG, to ground programs the charge current. When charging in constant-current mode, this pin servos to 1V.", 5 ~{ACPR} (hiz), 6 ~{CHRG} (hiz) "Open-Drain Charge Status Output. The charge status indicator pin has three states: pulldown, high impedance state, and pulse at 2Hz. This output can be used as a logic interface or as an LED driver. When the battery is being (See Datasheet)", 7 FB (in) "Feedback Pin for the Buck Regulator. A resistor divider from the regulator’s output to the FB pin programs the output voltage. Servo value for this pin is 0.8V.", 8 MODE (in), 9 EN_BUCK (in) "Enable Input Pin for the Switching Regulator. Pull this pin high to enable the regulator, pull low to shut down. Do not float this pin.", 10 SW (power) "Switch Pin for the Buck Regulator. Minimize the length of the metal trace connected to this pin. Place the inductor as close to this pin as possible.", 11 EP (power) "Ground. This pin is the back of the Exposed Pad package and must be soldered to the PCB for electrical connection and rated thermal performance."

## LTC4080XEDD#TRPBF
designator U?
500 mA Standalone Li-Ion Charger with Integrated 300 mA Synchronous Buck, 3.75 to 5.5 V Vin, 10-pin SON (DD-10), 0 to 70 degC, Pb-Free, Tape and Reel; Manufacturer: Linear Technology; PartNumber: LTC4080XEDD#TRPBF; Number of Cells: 1; Vin Max(V): 5.5; Vin Min(V): 3.75; PackageVersion: Rev. C, 06/2010; PackageReference: DD-10; PackageDescription: 10-Pin Plastic DFN, Body 3 x 3 mm, Pitch 0.5 mm; Supplier 1: Digi-Key; Supplier Part Number 1: LTC4080XEDD#TRPBF-ND; Number of Outputs: 1; Packing: Tape and Reel; RoHS: TRUE; Mounting Technology: Surface Mount; Code_JEDEC: MO-229; ComponentLink1Description: Manufacturer URL; ComponentLink1URL: http://www.linear.com/; ComponentLink2Description: Datasheet; ComponentLink2URL: http://cds.linear.com/docs/en/datasheet/4080Xf.pdf; ComponentLink3Description: Package Specification; ComponentLink3URL: http://cds.linear.com/docs/en/packaging/DFN_10_05-08-1699.pdf
footprint LT-DD-10_V (SON, 10-Leads, Body 3x3mm, Pitch 0.5mm, Thermal Pad 2.38x1.65mm)
pins: 1 BAT (power) "Charge Current Output and Buck Regulator Input. Provides charge current to the battery and regulates the final float voltage to 4.2V. An internal precision resistor divider from this pin sets the float voltage and is (See Datasheet)", 2 VCC (power) "Positive Input Supply Voltage. This pin provides power to the battery charger. VCC can range from 3.75V to 5.5V. This pin should be bypassed with at least a 1uF capacitor. When VCC is less than 32mV above the BAT pin (See Datasheet)", 3 ~{EN_CHRG} (in), 4 PROG (in) "Charge Current Program and Charge Current Monitor Pin. Connecting a 1% resistor, RPROG, to ground programs the charge current. When charging in constant-current mode, this pin servos to 1V.", 5 ~{ACPR} (hiz), 6 ~{CHRG} (hiz) "Open-Drain Charge Status Output. The charge status indicator pin has three states: pulldown, high impedance state, and pulse at 2Hz. This output can be used as a logic interface or as an LED driver. When the battery is being (See Datasheet)", 7 FB (in) "Feedback Pin for the Buck Regulator. A resistor divider from the regulator’s output to the FB pin programs the output voltage. Servo value for this pin is 0.8V.", 8 MODE (in), 9 EN_BUCK (in) "Enable Input Pin for the Switching Regulator. Pull this pin high to enable the regulator, pull low to shut down. Do not float this pin.", 10 SW (power) "Switch Pin for the Buck Regulator. Minimize the length of the metal trace connected to this pin. Place the inductor as close to this pin as possible.", 11 EP (power) "Ground. This pin is the back of the Exposed Pad package and must be soldered to the PCB for electrical connection and rated thermal performance."